# EAGLE library part INA326 (library TSlib)
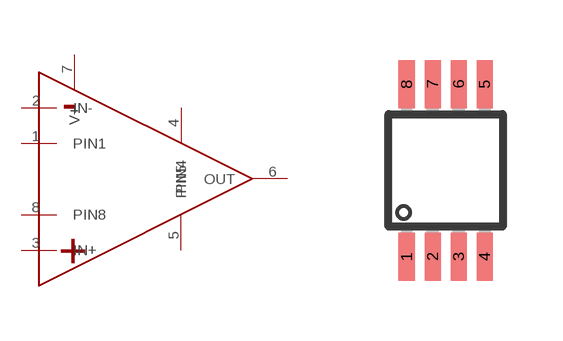
[diagram p3: symbol with the pads of S-PDSO-G8; footprint S-PDSO-G8]

Designator prefix -

## INA326  [S-PDSO-G8]
1  PIN1
2  IN-
3  IN+
4  PIN4
5  PIN5
6  OUT
7  V+
8  PIN8

## Footprint S-PDSO-G8 (pad centres in mm)
DGN (S-PDSO-G8) PowerPAD (TM) Plastic Small-Outline Package Source: http://focus.ti.com/lit/ds/symlink/ths4211.pdf
smd 0.4 x 1.2: 1 -0.975,-2.157; 2 -0.325,-2.157; 3 0.325,-2.157; 4 0.975,-2.157; 5 0.975,2.157; 6 0.325,2.157; 7 -0.325,2.157; 8 -0.975,2.157